# Altium footprint library Semiconductors.PcbLib: 22 footprints (part 2 of 2)
Each footprint in its own frame and in the unit in brackets; x right, y up, seen from the top. Pads: shape width x height; smd on the part's side, far side on the other; paste and mask are expansions set on the pad; w line width, h text height; cw(c..) or ccw(c..) is an arc to the next point about the centre after c.
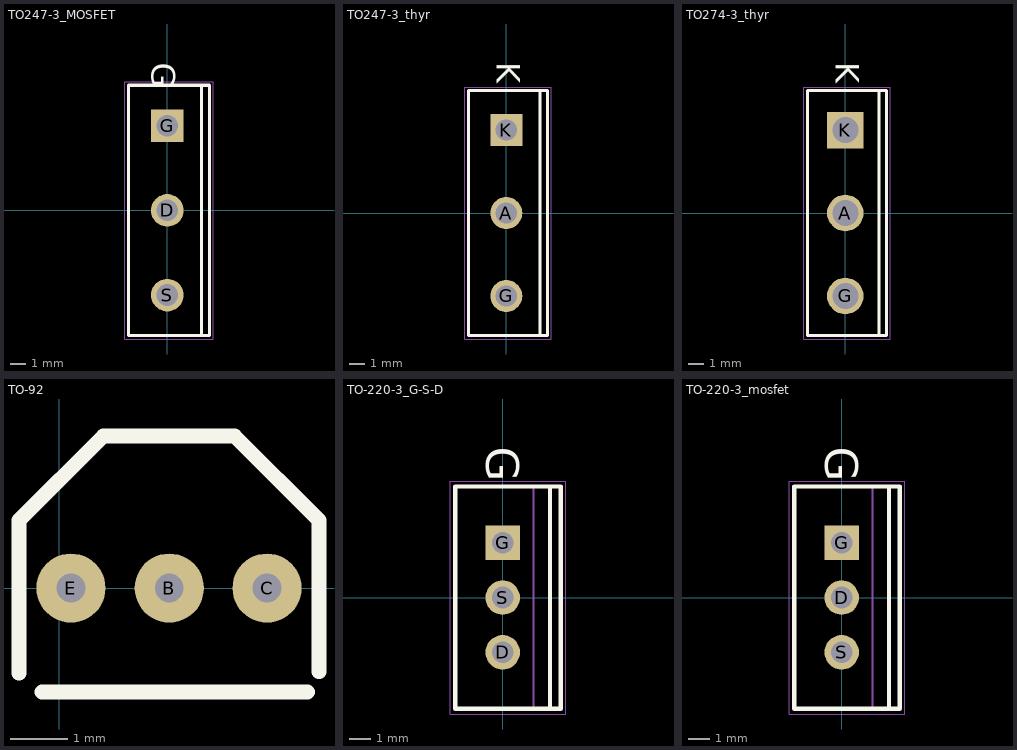
[diagram p1: the footprints below, top view; thin cyan lines are the x and y axes]

## TO247-3_MOSFET [mm] "FM, 3-Leads, Body 15.865x5.03mm, Pitch 5.44mm"
height 25.57
pads (3):
  round 2.1 hole 1.4: D(0,0) S(0,-5.45)
  rect 2.1x2.1 hole 1.4: G(0,5.45)
Top Overlay:
  lines w0.2: 2.21,-8.05 2.21,8.05 ; -2.49,-8.05 2.71,-8.05 2.71,8.05 -2.49,8.05 -2.49,-8.05
  text "G" at -1,9.5 h1.52
Mechanical 13:
  lines w0.1: 2.71,-8.025 2.71,8.025 ; 2.71,-8.025 -2.49,-8.025 -2.49,8.025 2.71,8.025 ; 2.71,-8.025 2.71,8.025
Mechanical 15:
  lines w0.05: -2.74,-8.275 -2.74,8.275 2.96,8.275 2.96,-8.275 -2.74,-8.275
  lines w0.1: -0.5,0 0.5,0 ; 0,-0.5 0,0.5
3D body: height 4.17, standoff 0, extent -0.31,4.36 0.31,6.52
3D body: height 0, standoff -1.6, extent -0.31,4.84 0.31,6.04
3D body: height 4.17, standoff 0, extent -0.31,-1.08 0.31,1.08
3D body: height 0, standoff -1.6, extent -0.31,-0.6 0.31,0.6
3D body: height 4.17, standoff 0, extent -0.31,-6.52 0.31,-4.36
3D body: height 0, standoff -1.6, extent -0.31,-6.04 0.31,-4.84
3D body: height 25.57, standoff 4.17, extent -2.49,-8.025 2.71,8.025
3D body: height 17.62, standoff 8.62, extent 2.71,-6.825 2.71,6.825
3D body: height 17.66, standoff 17.62, extent 2.71,0.351 2.71,6.825
3D body: height 17.66, standoff 17.62, extent 2.71,-6.825 2.71,-0.351
3D body: height 21.22, standoff 21.19, extent 2.71,0.351 2.71,6.825
3D body: height 21.22, standoff 21.19, extent 2.71,-6.825 2.71,-0.351
3D body: height 17.76, standoff 17.65, extent 2.71,0.689 2.71,6.825
3D body: height 17.76, standoff 17.65, extent 2.71,-6.825 2.71,-0.689
3D body: height 21.19, standoff 21.08, extent 2.71,0.689 2.71,6.825
3D body: height 21.19, standoff 21.08, extent 2.71,-6.825 2.71,-0.689
3D body: height 17.93, standoff 17.76, extent 2.71,1 2.71,6.825
3D body: height 17.93, standoff 17.76, extent 2.71,-6.825 2.71,-1
3D body: height 21.09, standoff 20.92, extent 2.71,1 2.71,6.825
3D body: height 21.09, standoff 20.92, extent 2.71,-6.825 2.71,-1
3D body: height 18.15, standoff 17.92, extent 2.71,1.273 2.71,6.825
3D body: height 18.15, standoff 17.92, extent 2.71,-6.825 2.71,-1.273
3D body: height 20.92, standoff 20.69, extent 2.71,1.273 2.71,6.825
3D body: height 20.92, standoff 20.69, extent 2.71,-6.825 2.71,-1.273
3D body: height 18.42, standoff 18.15, extent 2.71,1.497 2.71,6.825
3D body: height 18.42, standoff 18.15, extent 2.71,-6.825 2.71,-1.497
3D body: height 20.7, standoff 20.42, extent 2.71,1.497 2.71,6.825
3D body: height 20.7, standoff 20.42, extent 2.71,-6.825 2.71,-1.497
3D body: height 18.74, standoff 18.42, extent 2.71,1.663 2.71,6.825
3D body: height 18.74, standoff 18.42, extent 2.71,-6.825 2.71,-1.663
3D body: height 20.43, standoff 20.11, extent 2.71,1.663 2.71,6.825
3D body: height 20.43, standoff 20.11, extent 2.71,-6.825 2.71,-1.663
3D body: height 19.07, standoff 18.73, extent 2.71,1.765 2.71,6.825
3D body: height 19.07, standoff 18.73, extent 2.71,-6.825 2.71,-1.765
3D body: height 20.11, standoff 19.77, extent 2.71,1.765 2.71,6.825
3D body: height 20.11, standoff 19.77, extent 2.71,-6.825 2.71,-1.765
3D body: height 19.42, standoff 19.07, extent 2.71,1.8 2.71,6.825
3D body: height 19.42, standoff 19.07, extent 2.71,-6.825 2.71,-1.8
3D body: height 19.78, standoff 19.42, extent 2.71,1.8 2.71,6.825
3D body: height 19.78, standoff 19.42, extent 2.71,-6.825 2.71,-1.8
3D body: height 25.57, standoff 21.22, extent 2.71,-6.825 2.71,6.825

## TO247-3_thyr [mm] "FM, 3-Leads, Body 15.865x5.03mm, Pitch 5.44mm"
height 25.57
pads (3):
  round 2.1 hole 1.4: A(0,0) G(0,-5.45)
  rect 2.1x2.1 hole 1.4: K(0,5.45)
Top Overlay:
  lines w0.2: 2.21,-8.05 2.21,8.05 ; -2.49,-8.05 2.71,-8.05 2.71,8.05 -2.49,8.05 -2.49,-8.05
  text "K" at -0.635,9.906 h1.52
Mechanical 13:
  lines w0.1: 2.71,-8.025 2.71,8.025 ; 2.71,-8.025 -2.49,-8.025 -2.49,8.025 2.71,8.025 ; 2.71,-8.025 2.71,8.025
Mechanical 15:
  lines w0.05: -2.74,-8.275 -2.74,8.275 2.96,8.275 2.96,-8.275 -2.74,-8.275
  lines w0.1: -0.5,0 0.5,0 ; 0,-0.5 0,0.5
3D body: height 4.17, standoff 0, extent -0.31,4.36 0.31,6.52
3D body: height 0, standoff -1.6, extent -0.31,4.84 0.31,6.04
3D body: height 4.17, standoff 0, extent -0.31,-1.08 0.31,1.08
3D body: height 0, standoff -1.6, extent -0.31,-0.6 0.31,0.6
3D body: height 4.17, standoff 0, extent -0.31,-6.52 0.31,-4.36
3D body: height 0, standoff -1.6, extent -0.31,-6.04 0.31,-4.84
3D body: height 25.57, standoff 4.17, extent -2.49,-8.025 2.71,8.025
3D body: height 17.62, standoff 8.62, extent 2.71,-6.825 2.71,6.825
3D body: height 17.66, standoff 17.62, extent 2.71,0.351 2.71,6.825
3D body: height 17.66, standoff 17.62, extent 2.71,-6.825 2.71,-0.351
3D body: height 21.22, standoff 21.19, extent 2.71,0.351 2.71,6.825
3D body: height 21.22, standoff 21.19, extent 2.71,-6.825 2.71,-0.351
3D body: height 17.76, standoff 17.65, extent 2.71,0.689 2.71,6.825
3D body: height 17.76, standoff 17.65, extent 2.71,-6.825 2.71,-0.689
3D body: height 21.19, standoff 21.08, extent 2.71,0.689 2.71,6.825
3D body: height 21.19, standoff 21.08, extent 2.71,-6.825 2.71,-0.689
3D body: height 17.93, standoff 17.76, extent 2.71,1 2.71,6.825
3D body: height 17.93, standoff 17.76, extent 2.71,-6.825 2.71,-1
3D body: height 21.09, standoff 20.92, extent 2.71,1 2.71,6.825
3D body: height 21.09, standoff 20.92, extent 2.71,-6.825 2.71,-1
3D body: height 18.15, standoff 17.92, extent 2.71,1.273 2.71,6.825
3D body: height 18.15, standoff 17.92, extent 2.71,-6.825 2.71,-1.273
3D body: height 20.92, standoff 20.69, extent 2.71,1.273 2.71,6.825
3D body: height 20.92, standoff 20.69, extent 2.71,-6.825 2.71,-1.273
3D body: height 18.42, standoff 18.15, extent 2.71,1.497 2.71,6.825
3D body: height 18.42, standoff 18.15, extent 2.71,-6.825 2.71,-1.497
3D body: height 20.7, standoff 20.42, extent 2.71,1.497 2.71,6.825
3D body: height 20.7, standoff 20.42, extent 2.71,-6.825 2.71,-1.497
3D body: height 18.74, standoff 18.42, extent 2.71,1.663 2.71,6.825
3D body: height 18.74, standoff 18.42, extent 2.71,-6.825 2.71,-1.663
3D body: height 20.43, standoff 20.11, extent 2.71,1.663 2.71,6.825
3D body: height 20.43, standoff 20.11, extent 2.71,-6.825 2.71,-1.663
3D body: height 19.07, standoff 18.73, extent 2.71,1.765 2.71,6.825
3D body: height 19.07, standoff 18.73, extent 2.71,-6.825 2.71,-1.765
3D body: height 20.11, standoff 19.77, extent 2.71,1.765 2.71,6.825
3D body: height 20.11, standoff 19.77, extent 2.71,-6.825 2.71,-1.765
3D body: height 19.42, standoff 19.07, extent 2.71,1.8 2.71,6.825
3D body: height 19.42, standoff 19.07, extent 2.71,-6.825 2.71,-1.8
3D body: height 19.78, standoff 19.42, extent 2.71,1.8 2.71,6.825
3D body: height 19.78, standoff 19.42, extent 2.71,-6.825 2.71,-1.8
3D body: height 25.57, standoff 21.22, extent 2.71,-6.825 2.71,6.825

## TO274-3_thyr [mm] "FM, 3-Leads, Body 15.865x5.03mm, Pitch 5.44mm"
height 25.57
pads (3):
  round 2.4 hole 1.7: A(0,0) G(0,-5.45)
  rect 2.4x2.4 hole 1.7: K(0,5.45)
Top Overlay:
  lines w0.2: 2.21,-8.05 2.21,8.05 ; -2.49,-8.05 2.71,-8.05 2.71,8.05 -2.49,8.05 -2.49,-8.05
  text "K" at -0.635,9.906 h1.52
Mechanical 13:
  lines w0.1: 2.71,-8.025 2.71,8.025 ; 2.71,-8.025 -2.49,-8.025 -2.49,8.025 2.71,8.025 ; 2.71,-8.025 2.71,8.025
Mechanical 15:
  lines w0.05: -2.74,-8.275 -2.74,8.275 2.96,8.275 2.96,-8.275 -2.74,-8.275
3D body: height 17.62, standoff 8.62, extent 2.71,-6.825 2.71,6.825
3D body: height 17.66, standoff 17.62, extent 2.71,0.351 2.71,6.825
3D body: height 17.66, standoff 17.62, extent 2.71,-6.825 2.71,-0.351
3D body: height 21.22, standoff 21.19, extent 2.71,0.351 2.71,6.825
3D body: height 21.22, standoff 21.19, extent 2.71,-6.825 2.71,-0.351
3D body: height 17.76, standoff 17.65, extent 2.71,0.689 2.71,6.825
3D body: height 17.76, standoff 17.65, extent 2.71,-6.825 2.71,-0.689
3D body: height 21.19, standoff 21.08, extent 2.71,0.689 2.71,6.825
3D body: height 21.19, standoff 21.08, extent 2.71,-6.825 2.71,-0.689
3D body: height 17.93, standoff 17.76, extent 2.71,1 2.71,6.825
3D body: height 17.93, standoff 17.76, extent 2.71,-6.825 2.71,-1
3D body: height 21.09, standoff 20.92, extent 2.71,1 2.71,6.825
3D body: height 21.09, standoff 20.92, extent 2.71,-6.825 2.71,-1
3D body: height 18.15, standoff 17.92, extent 2.71,1.273 2.71,6.825
3D body: height 18.15, standoff 17.92, extent 2.71,-6.825 2.71,-1.273
3D body: height 20.92, standoff 20.69, extent 2.71,1.273 2.71,6.825
3D body: height 20.92, standoff 20.69, extent 2.71,-6.825 2.71,-1.273
3D body: height 18.42, standoff 18.15, extent 2.71,1.497 2.71,6.825
3D body: height 18.42, standoff 18.15, extent 2.71,-6.825 2.71,-1.497
3D body: height 20.7, standoff 20.42, extent 2.71,1.497 2.71,6.825
3D body: height 20.7, standoff 20.42, extent 2.71,-6.825 2.71,-1.497
3D body: height 18.74, standoff 18.42, extent 2.71,1.663 2.71,6.825
3D body: height 18.74, standoff 18.42, extent 2.71,-6.825 2.71,-1.663
3D body: height 20.43, standoff 20.11, extent 2.71,1.663 2.71,6.825
3D body: height 20.43, standoff 20.11, extent 2.71,-6.825 2.71,-1.663
3D body: height 19.07, standoff 18.73, extent 2.71,1.765 2.71,6.825
3D body: height 19.07, standoff 18.73, extent 2.71,-6.825 2.71,-1.765
3D body: height 20.11, standoff 19.77, extent 2.71,1.765 2.71,6.825
3D body: height 20.11, standoff 19.77, extent 2.71,-6.825 2.71,-1.765
3D body: height 19.42, standoff 19.07, extent 2.71,1.8 2.71,6.825
3D body: height 19.42, standoff 19.07, extent 2.71,-6.825 2.71,-1.8
3D body: height 19.78, standoff 19.42, extent 2.71,1.8 2.71,6.825
3D body: height 19.78, standoff 19.42, extent 2.71,-6.825 2.71,-1.8
3D body: height 25.57, standoff 21.22, extent 2.71,-6.825 2.71,6.825
3D body "User Library-PG-TO247-3-21.STEP": height 28.95, standoff -12.18, extent -2.7,-8.05 2.4,7.85

## TO-92 [mm]
pads (3):
  round 1.2 hole 0.5 mask+0.102: B(1.905,0) C(3.6,0) E(0.2,0)
Top Overlay:
  lines w0.254: -0.7,-1.475 -0.7,1.175 0.76,2.635 3.04,2.635 4.5,1.175 4.5,-1.45 ; -0.3,-1.8 4.3,-1.8
3D body "TO-92.STEP": height 7.5, standoff -1.2, extent -0.7,-1.9 4.5,2.623

## TO-220-3_G-S-D [mm] "FM, 3-Leads, Body 10.3x4.85mm, Pitch 2.54mm"
height 19.68
pads (3):
  round 1.6 hole 1: D(0,-2.54) S(0,0)
  rect 1.6x1.6 hole 1: G(0,2.54)
Top Overlay:
  lines w0.2: 2.195,-5.15 2.195,5.15 ; -2.205,-5.15 2.695,-5.15 2.695,5.15 -2.205,5.15 -2.205,-5.15
  text "G" at -0.762,6.985 h1.52
Mechanical 13:
  lines w0.1: 1.42,-5.15 1.42,5.15 ; -2.18,-5.15 -2.18,5.15 2.67,5.15 2.67,-5.15 -2.18,-5.15
Mechanical 15:
  lines w0.05: -2.43,-5.4 -2.43,5.4 2.92,5.4 2.92,-5.4 -2.43,-5.4
  lines w0.1: -0.5,0 0.5,0 ; 0,-0.5 0,0.5
3D body: height 2.8, standoff 0, extent -0.25,1.87 0.25,3.21
3D body: height 0, standoff -1.6, extent -0.25,2.16 0.25,2.92
3D body: height 2.8, standoff 0, extent -0.25,-0.67 0.25,0.67
3D body: height 0, standoff -1.6, extent -0.25,-0.38 0.25,0.38
3D body: height 2.8, standoff 0, extent -0.25,-3.21 0.25,-1.87
3D body: height 0, standoff -1.6, extent -0.25,-2.92 0.25,-2.16
3D body: height 13.48, standoff 2.8, extent -2.18,-5.15 2.67,5.15
3D body: height 14.96, standoff 13.48, extent 1.42,-4.975 2.67,4.975
3D body: height 15, standoff 14.96, extent 1.42,0.376 2.67,4.975
3D body: height 15, standoff 14.96, extent 1.42,-4.975 2.67,-0.376
3D body: height 18.81, standoff 18.77, extent 1.42,0.376 2.67,4.975
3D body: height 18.81, standoff 18.77, extent 1.42,-4.975 2.67,-0.376
3D body: height 15.11, standoff 14.99, extent 1.42,0.737 2.67,4.975
3D body: height 15.11, standoff 14.99, extent 1.42,-4.975 2.67,-0.737
3D body: height 18.77, standoff 18.66, extent 1.42,0.737 2.67,4.975
3D body: height 18.77, standoff 18.66, extent 1.42,-4.975 2.67,-0.737
3D body: height 15.28, standoff 15.1, extent 1.42,1.069 2.67,4.975
3D body: height 15.28, standoff 15.1, extent 1.42,-4.975 2.67,-1.069
3D body: height 18.66, standoff 18.48, extent 1.42,1.069 2.67,4.975
3D body: height 18.66, standoff 18.48, extent 1.42,-4.975 2.67,-1.069
3D body: height 15.52, standoff 15.28, extent 1.42,1.361 2.67,4.975
3D body: height 15.52, standoff 15.28, extent 1.42,-4.975 2.67,-1.361
3D body: height 18.49, standoff 18.24, extent 1.42,1.361 2.67,4.975
3D body: height 18.49, standoff 18.24, extent 1.42,-4.975 2.67,-1.361
3D body: height 15.82, standoff 15.52, extent 1.42,1.601 2.67,4.975
3D body: height 15.82, standoff 15.52, extent 1.42,-4.975 2.67,-1.601
3D body: height 18.25, standoff 17.95, extent 1.42,1.601 2.67,4.975
3D body: height 18.25, standoff 17.95, extent 1.42,-4.975 2.67,-1.601
3D body: height 16.15, standoff 15.81, extent 1.42,1.778 2.67,4.975
3D body: height 16.15, standoff 15.81, extent 1.42,-4.975 2.67,-1.778
3D body: height 17.95, standoff 17.62, extent 1.42,1.778 2.67,4.975
3D body: height 17.95, standoff 17.62, extent 1.42,-4.975 2.67,-1.778
3D body: height 16.51, standoff 16.14, extent 1.42,1.888 2.67,4.975
3D body: height 16.51, standoff 16.14, extent 1.42,-4.975 2.67,-1.888
3D body: height 17.62, standoff 17.26, extent 1.42,1.888 2.67,4.975
3D body: height 17.62, standoff 17.26, extent 1.42,-4.975 2.67,-1.888
3D body: height 16.88, standoff 16.5, extent 1.42,1.925 2.67,4.975
3D body: height 16.88, standoff 16.5, extent 1.42,-4.975 2.67,-1.925
3D body: height 17.26, standoff 16.88, extent 1.42,1.925 2.67,4.975
3D body: height 17.26, standoff 16.88, extent 1.42,-4.975 2.67,-1.925
3D body: height 19.68, standoff 18.81, extent 1.42,-4.975 2.67,4.975

## TO-220-3_mosfet [mm] "FM, 3-Leads, Body 10.3x4.85mm, Pitch 2.54mm"
height 19.68
pads (3):
  round 1.6 hole 1: D(0,0) S(0,-2.54)
  rect 1.6x1.6 hole 1: G(0,2.54)
Top Overlay:
  lines w0.2: 2.195,-5.15 2.195,5.15 ; -2.205,-5.15 2.695,-5.15 2.695,5.15 -2.205,5.15 -2.205,-5.15
  text "G" at -0.762,6.985 h1.52
Mechanical 13:
  lines w0.1: 1.42,-5.15 1.42,5.15 ; -2.18,-5.15 -2.18,5.15 2.67,5.15 2.67,-5.15 -2.18,-5.15
Mechanical 15:
  lines w0.05: -2.43,-5.4 -2.43,5.4 2.92,5.4 2.92,-5.4 -2.43,-5.4
  lines w0.1: -0.5,0 0.5,0 ; 0,-0.5 0,0.5
3D body: height 2.8, standoff 0, extent -0.25,1.87 0.25,3.21
3D body: height 0, standoff -1.6, extent -0.25,2.16 0.25,2.92
3D body: height 2.8, standoff 0, extent -0.25,-0.67 0.25,0.67
3D body: height 0, standoff -1.6, extent -0.25,-0.38 0.25,0.38
3D body: height 2.8, standoff 0, extent -0.25,-3.21 0.25,-1.87
3D body: height 0, standoff -1.6, extent -0.25,-2.92 0.25,-2.16
3D body: height 13.48, standoff 2.8, extent -2.18,-5.15 2.67,5.15
3D body: height 14.96, standoff 13.48, extent 1.42,-4.975 2.67,4.975
3D body: height 15, standoff 14.96, extent 1.42,0.376 2.67,4.975
3D body: height 15, standoff 14.96, extent 1.42,-4.975 2.67,-0.376
3D body: height 18.81, standoff 18.77, extent 1.42,0.376 2.67,4.975
3D body: height 18.81, standoff 18.77, extent 1.42,-4.975 2.67,-0.376
3D body: height 15.11, standoff 14.99, extent 1.42,0.737 2.67,4.975
3D body: height 15.11, standoff 14.99, extent 1.42,-4.975 2.67,-0.737
3D body: height 18.77, standoff 18.66, extent 1.42,0.737 2.67,4.975
3D body: height 18.77, standoff 18.66, extent 1.42,-4.975 2.67,-0.737
3D body: height 15.28, standoff 15.1, extent 1.42,1.069 2.67,4.975
3D body: height 15.28, standoff 15.1, extent 1.42,-4.975 2.67,-1.069
3D body: height 18.66, standoff 18.48, extent 1.42,1.069 2.67,4.975
3D body: height 18.66, standoff 18.48, extent 1.42,-4.975 2.67,-1.069
3D body: height 15.52, standoff 15.28, extent 1.42,1.361 2.67,4.975
3D body: height 15.52, standoff 15.28, extent 1.42,-4.975 2.67,-1.361
3D body: height 18.49, standoff 18.24, extent 1.42,1.361 2.67,4.975
3D body: height 18.49, standoff 18.24, extent 1.42,-4.975 2.67,-1.361
3D body: height 15.82, standoff 15.52, extent 1.42,1.601 2.67,4.975
3D body: height 15.82, standoff 15.52, extent 1.42,-4.975 2.67,-1.601
3D body: height 18.25, standoff 17.95, extent 1.42,1.601 2.67,4.975
3D body: height 18.25, standoff 17.95, extent 1.42,-4.975 2.67,-1.601
3D body: height 16.15, standoff 15.81, extent 1.42,1.778 2.67,4.975
3D body: height 16.15, standoff 15.81, extent 1.42,-4.975 2.67,-1.778
3D body: height 17.95, standoff 17.62, extent 1.42,1.778 2.67,4.975
3D body: height 17.95, standoff 17.62, extent 1.42,-4.975 2.67,-1.778
3D body: height 16.51, standoff 16.14, extent 1.42,1.888 2.67,4.975
3D body: height 16.51, standoff 16.14, extent 1.42,-4.975 2.67,-1.888
3D body: height 17.62, standoff 17.26, extent 1.42,1.888 2.67,4.975
3D body: height 17.62, standoff 17.26, extent 1.42,-4.975 2.67,-1.888
3D body: height 16.88, standoff 16.5, extent 1.42,1.925 2.67,4.975
3D body: height 16.88, standoff 16.5, extent 1.42,-4.975 2.67,-1.925
3D body: height 17.26, standoff 16.88, extent 1.42,1.925 2.67,4.975
3D body: height 17.26, standoff 16.88, extent 1.42,-4.975 2.67,-1.925
3D body: height 19.68, standoff 18.81, extent 1.42,-4.975 2.67,4.975